# EAGLE library part SD-CONNECTOR (library sd-card_attend)
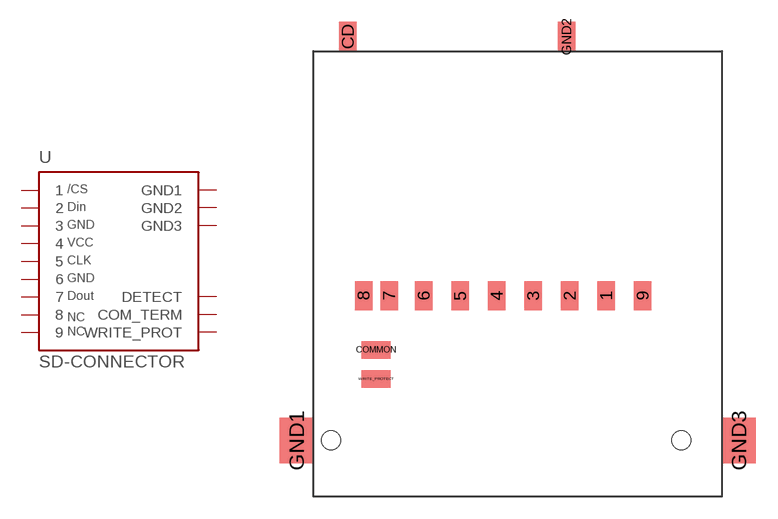
[diagram p0: symbol with the pads of 104G-TAA0-R; footprint 104G-TAA0-R]

Designator prefix -

## SD-CONNECTOR104G-TAA0-R  [104G-TAA0-R]
1  1  in
2  2  in
3  3  in
4  4  in
5  5  in
6  6  in
7  7  in
8  8  in
9  9  in
CD  DETECT  in
COMMON  COM_TERM  in
GND1  GND1  in
GND2  GND2  in
GND3  GND3  in
WRITE_PROTECT  WRITE_PROT  in

## Footprint 104G-TAA0-R (pad centres in mm)
smd 1.2 x 2: 1 6.87,0; 2 4.37,0; 3 1.87,0; 4 -0.63,0; 5 -3.13,0; 6 -5.63,0; 7 -8,0; 8 -9.75,0; 9 9.37,0; CD -10.83,17.75; GND2 4.15,17.75
smd 2 x 1.2: COMMON -8.9,-3.7; WRITE_PROTECT -8.9,-5.7
smd 2.3 x 3.1: GND1 -14.35,-9.9; GND3 15.95,-9.9
hole 1.3 at -12,-9.9
hole 1.3 at 12,-9.9